# EAGLE library part C8051F34* (library MCU)
edit this description Auto generated by make-symbol-device-package-bsdl.ulp Rev. 43 Source:
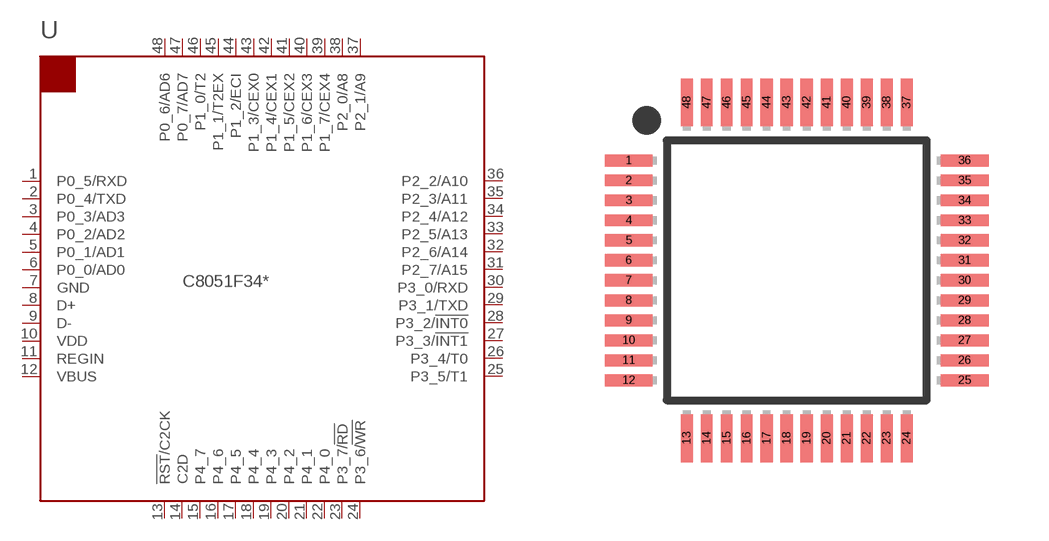
[diagram p4: symbol with the pads of TQFP-48; footprint TQFP-48]

Designator prefix U

## C8051F340-GQ (MEM: 64K; MIPS: 48; PARTNO: 01-100479-00; RAM: 4352)  [TQFP-48]
1  P0_5/RXD
2  P0_4/TXD
3  P0_3/AD3
4  P0_2/AD2
5  P0_1/AD1
6  P0_0/AD0
7  GND  pwr
8  D+
9  D-
10  VDD  pwr
11  REGIN  in
12  VBUS  in
13  !RST!/C2CK
14  C2D
15  P4_7
16  P4_6
17  P4_5
18  P4_4
19  P4_3
20  P4_2
21  P4_1
22  P4_0
23  P3_7/!RD!
24  P3_6/!WR!
25  P3_5/T1
26  P3_4/T0
27  P3_3/!INT1!
28  P3_2/!INT0!
29  P3_1/TXD
30  P3_0/RXD
31  P2_7/A15
32  P2_6/A14
33  P2_5/A13
34  P2_4/A12
35  P2_3/A11
36  P2_2/A10
37  P2_1/A9
38  P2_0/A8
39  P1_7/CEX4
40  P1_6/CEX3
41  P1_5/CEX2
42  P1_4/CEX1
43  P1_3/CEX0
44  P1_2/ECI
45  P1_1/T2EX
46  P1_0/T2
47  P0_7/AD7
48  P0_6/AD6

## Footprint TQFP-48 (pad centres in mm)
TQFP-48 Auto generated by make-symbol-device-package-bsdl.ulp Rev. 43 Package Settings: L/L1: 9 D/D1: 7 m:0.6 b:0.2 e:0.5 w:0.3 x:1.2 y:0.3 r:0
smd 1.2 x 0.3: 1 -4.2,2.75; 2 -4.2,2.25; 3 -4.2,1.75; 4 -4.2,1.25; 5 -4.2,0.75; 6 -4.2,0.25; 7 -4.2,-0.25; 8 -4.2,-0.75; 9 -4.2,-1.25; 10 -4.2,-1.75; 11 -4.2,-2.25; 12 -4.2,-2.75; 25 4.2,-2.75; 26 4.2,-2.25; 27 4.2,-1.75; 28 4.2,-1.25; 29 4.2,-0.75; 30 4.2,-0.25; 31 4.2,0.25; 32 4.2,0.75; 33 4.2,1.25; 34 4.2,1.75; 35 4.2,2.25; 36 4.2,2.75
smd 0.3 x 1.2: 13 -2.75,-4.2; 14 -2.25,-4.2; 15 -1.75,-4.2; 16 -1.25,-4.2; 17 -0.75,-4.2; 18 -0.25,-4.2; 19 0.25,-4.2; 20 0.75,-4.2; 21 1.25,-4.2; 22 1.75,-4.2; 23 2.25,-4.2; 24 2.75,-4.2; 37 2.75,4.2; 38 2.25,4.2; 39 1.75,4.2; 40 1.25,4.2; 41 0.75,4.2; 42 0.25,4.2; 43 -0.25,4.2; 44 -0.75,4.2; 45 -1.25,4.2; 46 -1.75,4.2; 47 -2.25,4.2; 48 -2.75,4.2